# Altium footprint library 691137710002.PcbLib: 1 footprints
Each footprint in its own frame and in the unit in brackets; x right, y up, seen from the top. Pads: shape width x height; smd on the part's side, far side on the other; paste and mask are expansions set on the pad; w line width, h text height; cw(c..) or ccw(c..) is an arc to the next point about the centre after c.
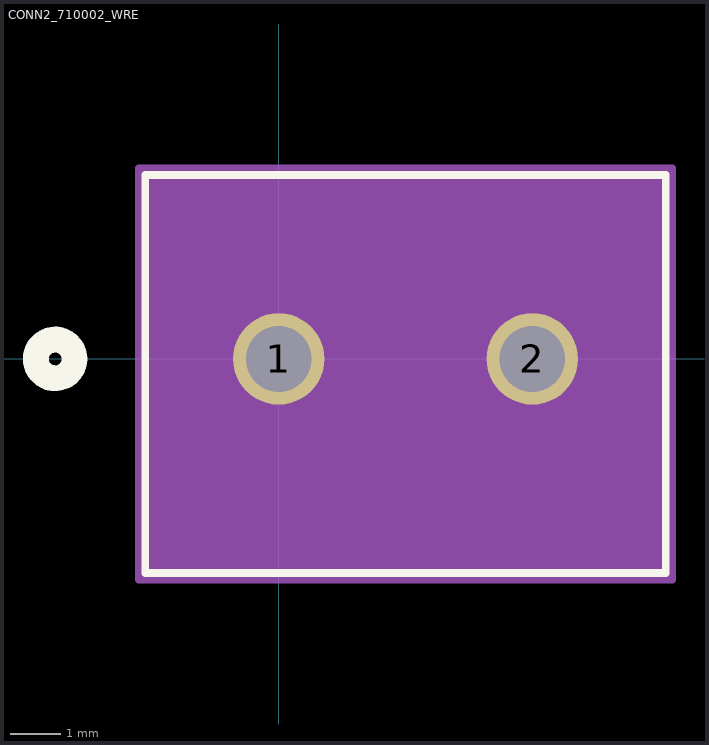
[diagram p0: the footprint, top view; thin cyan lines are the x and y axes]

## CONN2_710002_WRE [mil]
pads (2):
  round 71 / inner round 60 / far side round 71 hole 51 paste-99999 mask+0: 1(0,0) 2(196.85,0)
Top Overlay:
  circle w20: c-173.57,0 r15
  lines w6: -103.57,-166.2 -103.57,142.8 300.43,142.8 300.43,-166.2 -103.57,-166.2
Bottom Overlay:
  circle w20: c-173.57,0 r15
Mechanical 13:
  circle w20: c0,75 r15
  lines w1: -98.57,-161.2 -98.57,137.8 295.43,137.8 295.43,-161.2 -98.57,-161.2
Mechanical 15:
  region: 305.43,147.8 -108.57,147.8 -108.57,-171.2 305.43,-171.2
  lines w6: -108.57,-171.2 305.43,-171.2 305.43,147.8 -108.57,147.8 -108.57,-171.2
3D body "691137710002.stp": height 452.76, standoff -141.73, extent -100,-160 293.7,135.28